# Altium footprint library SOP64P599X175-20N.PcbLib: 1 footprints
Each footprint in its own frame and in the unit in brackets; x right, y up, seen from the top. Pads: shape width x height; smd on the part's side, far side on the other; paste and mask are expansions set on the pad; w line width, h text height; cw(c..) or ccw(c..) is an arc to the next point about the centre after c.
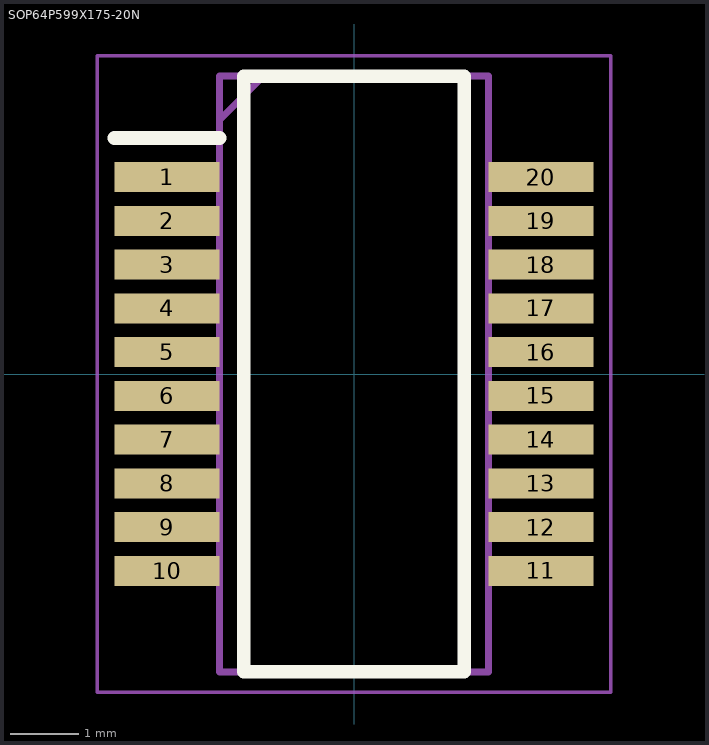
[diagram p0: the footprint, top view; thin cyan lines are the x and y axes]

## SOP64P599X175-20N [mm]
pads (20):
  rect 1.526x0.435 smd: 1(-2.712,2.858) 2(-2.712,2.222) 3(-2.712,1.588) 4(-2.712,0.952) 5(-2.712,0.318) 6(-2.712,-0.318) 7(-2.712,-0.952) 8(-2.712,-1.588) 9(-2.712,-2.222) 10(-2.712,-2.858) 11(2.712,-2.858) 12(2.712,-2.222) 13(2.712,-1.588) 14(2.712,-0.952) 15(2.712,-0.318) 16(2.712,0.318) 17(2.712,0.952) 18(2.712,1.588) 19(2.712,2.222) 20(2.712,2.858)
Top Overlay:
  lines w0.2: -3.475,3.425 -1.95,3.425 ; -1.6,-4.324 1.6,-4.324 1.6,4.324 -1.6,4.324 -1.6,-4.324
Mechanical 15:
  lines w0.1: -1.95,3.69 -1.314,4.324 ; -1.95,-4.324 1.95,-4.324 1.95,4.324 -1.95,4.324 -1.95,-4.324
Mechanical 20:
  lines w0.05: -3.725,-4.619 3.725,-4.619 3.725,4.619 -3.725,4.619 -3.725,-4.619